# Altium footprint library myPcbLib1.PcbLib: 99 footprints (part 1 of 7)
Each footprint in its own frame and in the unit in brackets; x right, y up, seen from the top. Pads: shape width x height; smd on the part's side, far side on the other; paste and mask are expansions set on the pad; w line width, h text height; cw(c..) or ccw(c..) is an arc to the next point about the centre after c.
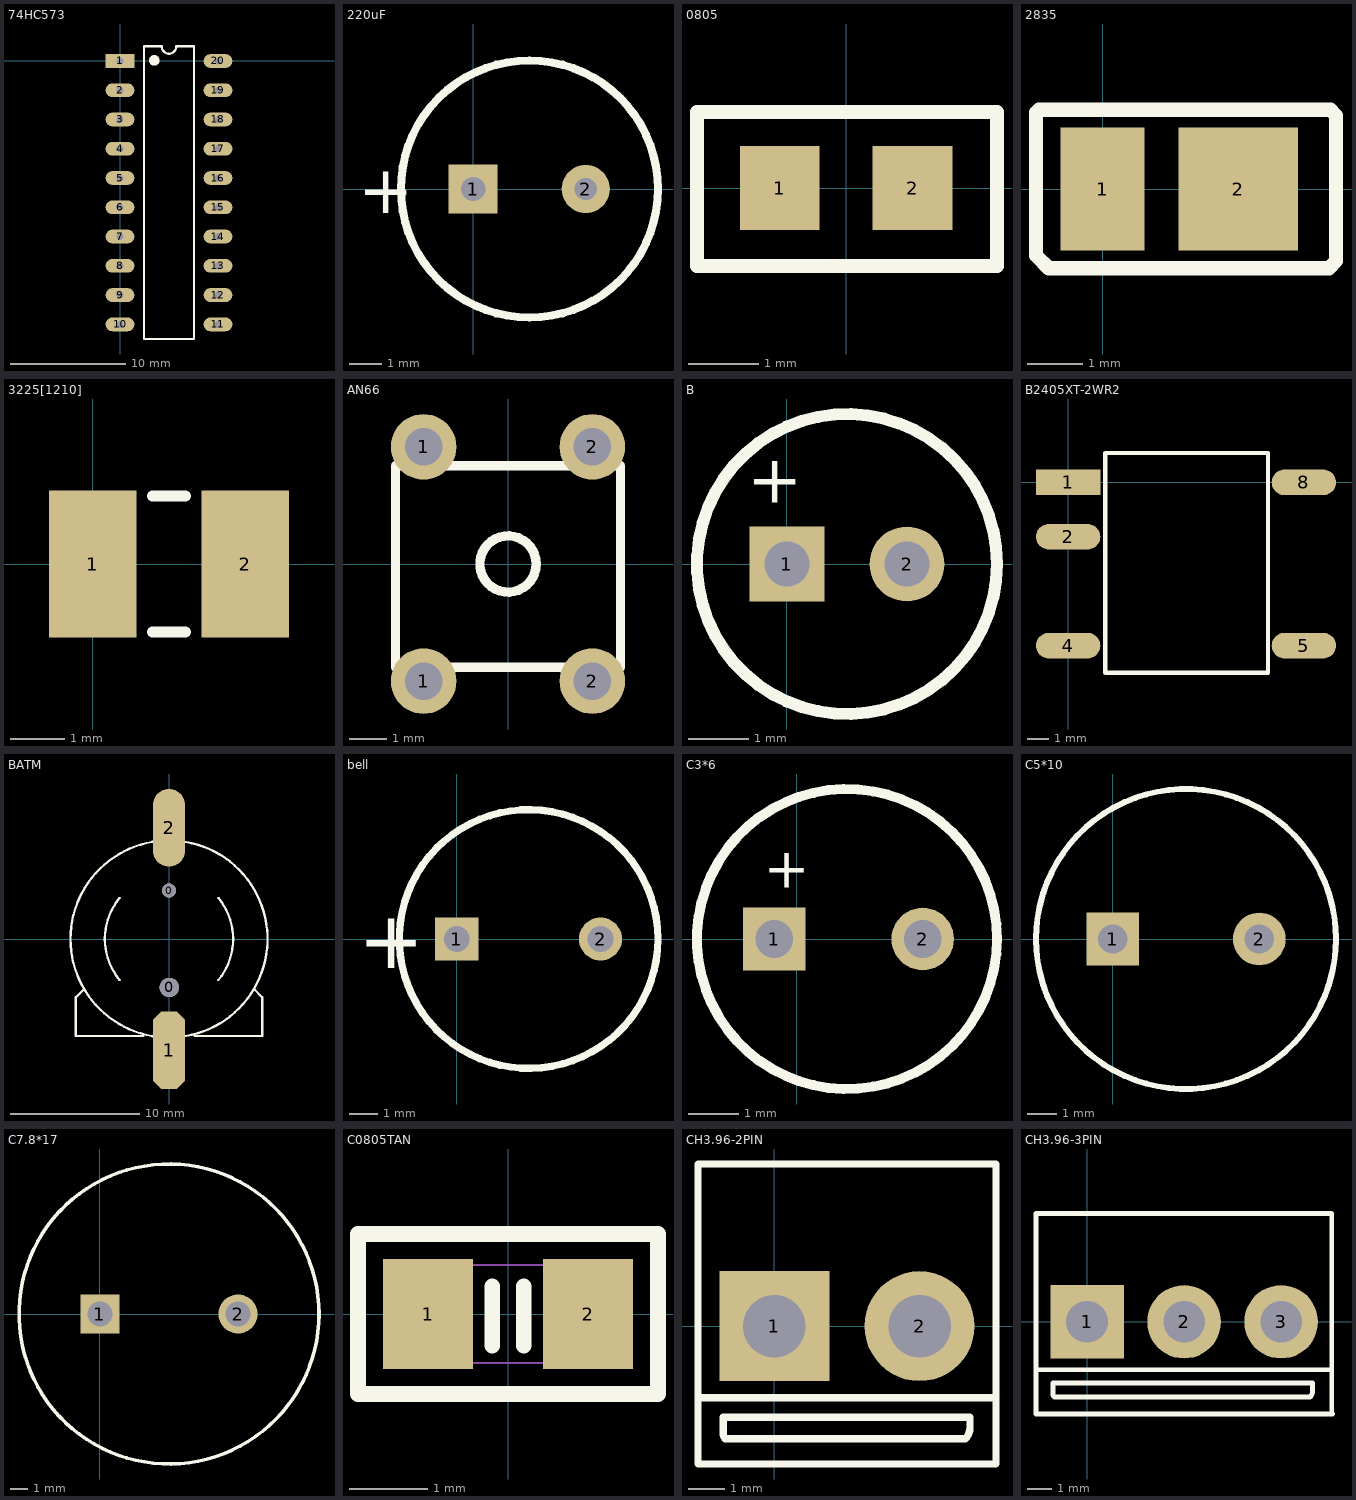
[diagram p0: the footprints below, top view; thin cyan lines are the x and y axes]

## 74HC573 [mm]
pads (20):
  rect 2.5x1.2 hole 0.6: 1(0,0)
  oval 2.5x1.2 hole 0.6: 2(0,-2.54) 3(0,-5.08) 4(0,-7.62) 5(0,-10.16) 6(0,-12.7) 7(0,-15.24) 8(0,-17.78) 9(0,-20.32) 10(0,-22.86) 11(8.5,-22.86) 12(8.5,-20.32) 13(8.5,-17.78) 14(8.5,-15.24) 15(8.5,-12.7) 16(8.5,-10.16) 17(8.5,-7.62) 18(8.5,-5.08) 19(8.5,-2.54) 20(8.5,0)
Top Overlay:
  circle w0.6: c2.972,0.051 r0.163
  lines w0.2: 2.085,-24.13 6.415,-24.13 6.415,1.27 4.885,1.27 cw(c4.25,1.27) 3.615,1.27 2.085,1.27 2.085,-24.13

## 220uF [mm]
pads (2):
  rect 1.524x1.524 hole 0.762: 1(0,0)
  round 1.5 hole 0.7: 2(3.5,0)
Top Overlay:
  circle w0.254: c1.75,0 r4
  text "+" at -3.584,-0.762 h1.5

## 0805 [mm] "1.14mm,1.2mm,3.05mm"
pads (2):
  rect 1.14x1.2 smd: 1(-0.95,0) 2(0.95,0)
Top Overlay:
  lines w0.2: -2.134,-1.118 2.159,-1.118 2.159,1.092 -2.134,1.092 -2.134,0.27 -2.134,-1.118

## 2835 [mm] "LED light footprints"
pads (2):
  rect 1.5x2.2 smd: 1(0,0)
  rect 2.15x2.2 smd: 2(2.438,0)
Top Overlay:
  lines w0.254: -1.194,-1.194 -1.194,1.067 -1.194,1.372 -1.143,1.422 4.089,1.422 4.191,1.321 4.191,-1.295 4.064,-1.422 -0.965,-1.422 -1.194,-1.194

## 3225[1210] [mm] "Chip Resistor; Body 3.2 x 2.5 mm (LxW typ)"
pads (2):
  rect 1.6x2.7 smd: 1(0,0) 2(2.8,0)
Top Overlay:
  lines w0.2: 1.1,-1.25 1.7,-1.25 ; 1.1,1.25 1.7,1.25

## AN66 [mil]
pads (4):
  round 70 hole 40: 1(-90,-125) 1(-90,125) 2(90,-125) 2(90,125)
Top Overlay:
  circle w10: c0,0 r30
  lines w10: -120,-110 120,-110 120,105 -120,105 -120,-110

## B [mm] "Capacitor, Electrolytic, Radial; Body 5 x 6.8 mm (Dia.xH typ); Pin Spacing 2 mm (typ)"
pads (2):
  rect 1.25x1.25 hole 0.75: 1(0,0)
  round 1.25 hole 0.75: 2(2,0)
Top Overlay:
  circle w0.2: c1,0 r2.5
  text "+" at -0.661,1.023 h0.8

## B2405XT-2WR2 [mm]
pads (5):
  rect 3x1.2 smd: 1(0,0)
  oval 3x1.2 smd: 2(0,-2.54) 4(0,-7.62) 5(11,-7.62) 8(11,0)
Top Overlay:
  lines w0.2: 1.727,-8.89 1.727,1.372 6.147,1.372 9.322,1.372 9.322,-8.89 1.727,-8.89

## BATM [mm]
pads (4):
  round 1.1 hole 1.1 unplated: 0(-0.012,3.75)
  round 1.5 hole 1.5 unplated: 0(0.012,-3.75)
  oct 2.5x6 smd: 1(-0.012,-8.6)
  oval 2.5x6 smd: 2(-0.012,8.6)
Top Overlay:
  lines w0.178: -6.612,-3.9 -7.212,-4.5 -7.212,-7.5 -2.012,-7.5 ; -3.827,-3.169 cw(c-0.012,0) -3.825,3.172 ; -0.846,-7.574 cw(c-0.012,0) -7.632,0 cw(c-0.012,0) -0.846,7.574 ; 0.821,-7.574 ccw(c-0.012,0) 0.821,7.574 ; 1.987,-7.5 7.187,-7.5 7.187,-4.5 6.612,-3.925 ; 3.797,-3.175 ccw(c-0.012,0) 3.8,3.172

## bell [mm]
pads (2):
  rect 1.5x1.5 hole 0.9: 1(0,0)
  round 1.5 hole 0.9: 2(5,0)
Top Overlay:
  circle w0.254: c2.5,0 r4.5
  text "+" at -3.437,-1.016 h2

## C3*6 [mm]
pads (2):
  rect 1.25x1.25 hole 0.75: 1(-0.457,0)
  round 1.25 hole 0.75: 2(2.515,0)
Top Overlay:
  circle w0.2: c1,0 r3
  text "+" at -0.661,1.023 h0.8

## C5*10 [mm]
pads (2):
  rect 1.8x1.8 hole 1: 1(0,0)
  round 1.8 hole 1: 2(5,0)
Top Overlay:
  circle w0.2: c2.5,0 r5.116

## C7.8*17 [mm]
pads (2):
  rect 2.2x2.2 hole 1.4: 1(0,0)
  round 2.2 hole 1.4: 2(7.8,0)
Top Overlay:
  circle w0.2: c3.9,0 r8.472

## C0805TAN [mil]
pads (2):
  rect 45x55 smd: 1(-40,0) 2(40,0)
Top Overlay:
  lines w7.87: -7.87,-15.75 -7.87,13.78 ; 7.87,-15.75 7.87,13.78 ; -75,-40 75,-40 75,40 -75,40 -75,-40
Mechanical 8:
  lines w1: -39.37,-24.61 39.37,-24.61 39.37,24.61 -39.37,24.61 -39.37,-24.61

## CH3.96-2PIN [mm]
pads (2):
  rect 3x3 hole 1.7: 1(0,0)
  round 3 hole 1.7: 2(3.96,0)
Top Overlay:
  lines w0.2: -2.083,-1.956 -2.083,-3.759 6.045,-3.759 6.045,-1.956 ; -2.083,-1.956 -2.083,4.42 6.045,4.42 6.045,-1.956 ; -2.083,-1.956 6.045,-1.956 ; -1.397,-2.925 ccw(c-1.188,-2.925) -1.336,-3.073 5.207,-3.073 ccw(c4.9,-2.767) 5.334,-2.767 5.334,-2.489 -1.397,-2.489 -1.397,-2.925

## CH3.96-3PIN [mm]
pads (3):
  rect 3x3 hole 1.7: 1(0,0)
  round 3 hole 1.7: 2(3.96,0) 3(7.92,0)
Top Overlay:
  lines w0.2: -2.083,-1.956 -2.083,-3.759 10.008,-3.759 cw(c10.069,-3.698) 9.982,-3.698 9.982,-1.956 ; -2.083,-1.956 -2.083,4.42 9.982,4.42 9.982,-1.956 ; -2.083,-1.956 9.982,-1.956 ; -1.397,-2.925 ccw(c-1.188,-2.925) -1.336,-3.073 9.098,-3.073 ccw(c8.863,-2.839) 9.195,-2.839 9.195,-2.489 -1.397,-2.489 -1.397,-2.925